# EAGLE library part MCP980*-M/? (library mchp-sensors)
2-Wire High-Accuracy Temperature Sensor Description The MCP9801 is a digital temperature sensor capable of reading temperatures from -55°C to +125°C. Temperature data is measured from an integrated temperature sensor and converted to digital word with a user selectable 9 to 12-bit Sigma Delta Analog to Digital Converter. The MCP9801 notifies the host controller when the ambient temperature exceeds a user programmed set point. The ALERT output is programmable as either a simple comparator for thermostat operation or as a temperature event interrupt. Communication with the sensor is accomplished via a two-wire bus that is compatible with industry standard protocols. This permits reading the current temperature, programming the set point and hysteresis and configuring the device. Address selection inputs allow up to eight MCP9801 sensors to share the same 2-wire bus for multizone monitoring. Small physical size, low installed cost and ease of use make the MCP9801 an ideal choice for implementing sophisticated temperature system management schemes in a variety of applications. FEATURES 2-wire I²C™/SMBus Compatible Interface User Selectable 9- to 12-Bit Resolution ±1°C Accuracy from -10°C to +85°C ±2°C Accuracy from +85°C to +125°C Low Operating Current: 220 µA (typical) Shutdown Mode: 1 µA (max) Power Saving One-Shot Temperature Conversion Measurement Space Saving MSOP and SOIC Packages How to order Device Tape/Reel Temp Range Package MCP9801 MCP9803 Blank T = Tape and Real M -55°C to +125°C OT = SOT-23 MS = MSOP SN = SOIC Ref: Datasheet <http://ww1.microchip.com/downloads/en/DeviceDoc/21909d.pdf>
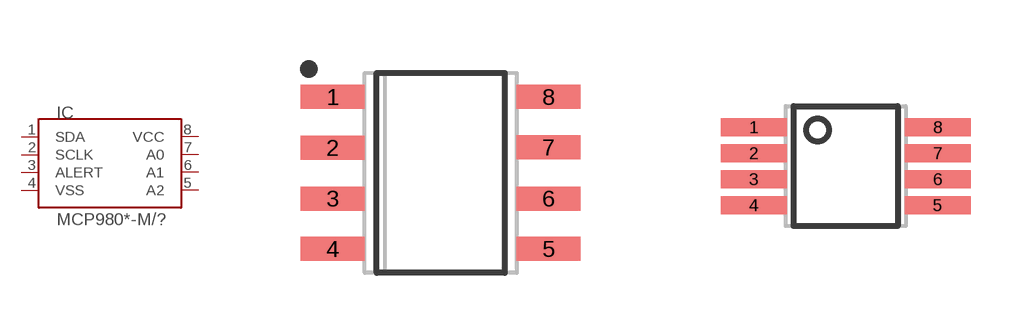
[diagram p0: symbol with the pads of SOIC127P600X175-8N; footprints SOIC127P600X175-8N, SOP65P490X109-8M]

Designator prefix IC

## MCP9801-T-M/SN (AVRG-PRICE: 1.17; DATASHEET: http://ww1.microchip.com/downloads/en/DeviceDoc/21909d.pdf; DESCRIPTION: 2 WIRE SERIAL TEMP SENSOR; DIGIKEY: MCP9801-M/SN-ND; MOUSER: 579-MCP9801-M/SN; NEWARK: 88H9948; OCTOPART-LINK: http://octopart.com/mcp9801-m%2Fsn-microchip-515928), MCP980@-M/SN  [SOIC127P600X175-8N]
1  SDA
2  SCLK
3  ALERT
4  VSS  pwr
5  A2
6  A1
7  A0
8  VCC  pwr

## MCP980@-M/MS  [SOP65P490X109-8M]
Pads as for SOIC127P600X175-8N

## Footprint SOIC127P600X175-8N (pad centres in mm)
Small Outline Package (SOIC8) 1.27mm Pitch 0.5mm Pin Width 8 Pin count 3.9mm L x 4.9mm W x 1.75mm H ----------------------------------------------------
smd 1.6 x 0.6: 1 -2.7,1.9; 2 -2.7,0.63; 3 -2.7,-0.64; 4 -2.7,-1.9; 5 2.7,-1.9; 6 2.7,-0.64; 7 2.7,0.64; 8 2.7,1.9

## Footprint SOP65P490X109-8M (pad centres in mm)
Small Outline Package (SOP8) 0.65mm Pitch 8 Pin count 3.0mm L x 3.0mm W x 1.1mm H ----------------------------------------------------
smd 1.65 x 0.45: 1 -2.3,0.975; 2 -2.3,0.325; 3 -2.3,-0.325; 4 -2.3,-0.975; 5 2.3,-0.975; 6 2.3,-0.325; 7 2.3,0.325; 8 2.3,0.975